# Altium schematic symbol library SCH - INTERFACE - INFINEON TLE7251V.SCHLIB: 1 symbol
Pins are listed as number, name and electrical type; pins without a type are passive.

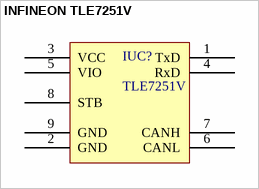
[diagram p0: symbol INFINEON TLE7251V]

## INFINEON TLE7251V
designator IUC?, comment TLE7251V
pins: 1 TxD, 2 GND, 3 VCC, 4 RxD, 5 VIO, 6 CANL, 7 CANH, 8 STB, 9 GND